# Altium footprint library TIM145.PcbLib: 1 footprints
Each footprint in its own frame and in the unit in brackets; x right, y up, seen from the top. Pads: shape width x height; smd on the part's side, far side on the other; paste and mask are expansions set on the pad; w line width, h text height; cw(c..) or ccw(c..) is an arc to the next point about the centre after c.
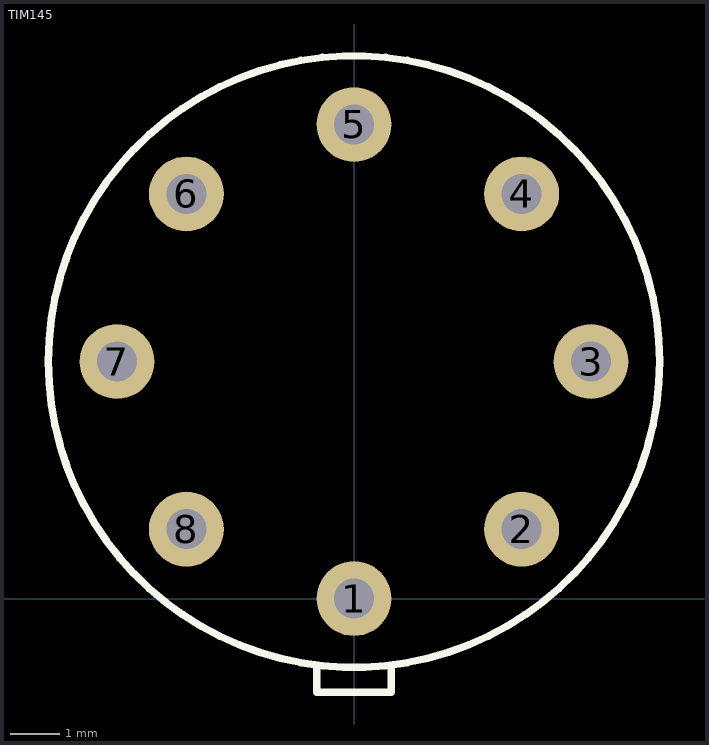
[diagram p0: the footprint, top view; thin cyan lines are the x and y axes]

## TIM145 [mil]
pads (8):
  round 60 hole 32: 1(0,0) 2(134.35,55.65) 3(190,190) 4(134.35,324.35) 5(0,380) 6(-134.35,324.35) 7(-190,190) 8(-134.35,55.65)
TopOverlay:
  circle w6: c0,190 r245
  lines w6: -30,-55 -30,-75 30,-75 30,-55